# EAGLE library part LM2674 (library National Semiconductor)
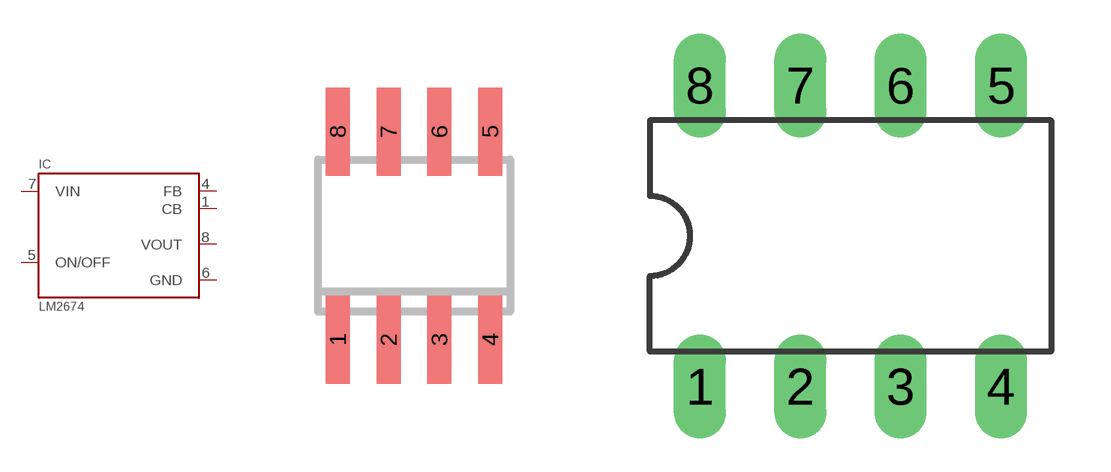
[diagram p0: symbol with the pads of SO08; footprints SO08, DIL08]

Designator prefix IC

## LM2674M08A  [SO08]
1  CB  pas
4  FB  pas
5  ON/OFF  in
6  GND  pwr
7  VIN  pwr
8  VOUT  pwr

## LM2674N08E  [DIL08]
Pads as for SO08

## Footprint SO08 (pad centres in mm)
smd 0.6 x 2.2: 1 -1.905,-2.6; 2 -0.635,-2.6; 3 0.635,-2.6; 4 1.905,-2.6; 5 1.905,2.6; 6 0.635,2.6; 7 -0.635,2.6; 8 -1.905,2.6

## Footprint DIL08 (pad centres in mm)
Dual In Line Package
drill 0.813 long: 1 -3.81,-3.81; 2 -1.27,-3.81; 3 1.27,-3.81; 4 3.81,-3.81; 5 3.81,3.81; 6 1.27,3.81; 7 -1.27,3.81; 8 -3.81,3.81